# EAGLE library part FRIEND (library pic_board_lib)
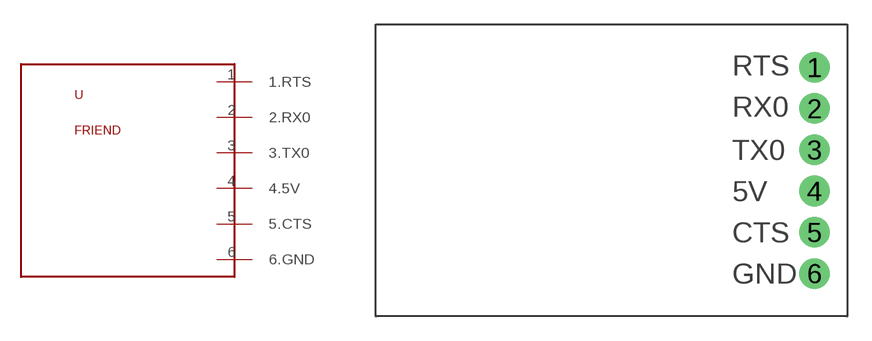
[diagram p14: symbol with the pads of FRIEND; footprint FRIEND]

Designator prefix -

## FRIEND  [FRIEND]
1  1.RTS
2  2.RX0
3  3.TX0
4  4.5V
5  5.CTS
6  6.GND

## Footprint FRIEND (pad centres in mm)
drill 1.016 pad 1.88: 1 0,6.35; 2 0,3.81; 3 0,1.27; 4 0,-1.27; 5 0,-3.81; 6 0,-6.35